# Altium schematic symbol library TPC8107.SchLib: 1 symbol
Pins are listed as number, name and electrical type; pins without a type are passive.

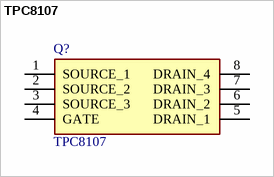
[diagram p0: symbol TPC8107]

## TPC8107
designator Q?
MOSFET MOSFET P-Ch 30V 13A Rdson=0.007Ohm; Manufacturer_Name: Toshiba; Geometry.Height: 1.9mm; Manufacturer_Part_Number: TPC8107; Mouser Part Number: *; Mouser Price/Stock: *; Arrow Part Number: *; Arrow Price/Stock: *; Datasheet Link: https://datasheetspdf.com/pdf-file/312202/ToshibaSemiconductor/TPC8107/1
footprint SOIC127P600X190-8N
pins: 1 SOURCE_1, 2 SOURCE_2, 3 SOURCE_3, 4 GATE, 5 DRAIN_1, 6 DRAIN_2, 7 DRAIN_3, 8 DRAIN_4